# Altium schematic symbol library Shelestov_Relays.SchLib: 1 symbol
Pins are listed as number, name and electrical type; pins without a type are passive.

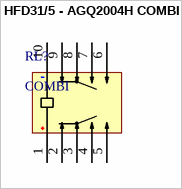
[diagram p0: symbol HFD31/5 - AGQ2004H COMBI]

## HFD31/5 - AGQ2004H COMBI
designator RL?, comment COMBI
Combined HFD31/5 + AGQ2004H + TX2-5V + Ningbo P-005 / Implying single side stable.
footprint HFD31/5 - AGQ2004H
footprint HFD31/5 - AGQ2004H - TX2
pins: 1 +, 2, 3, 4, 5, 6, 7, 8, 9, 10